# Altium footprint library dAir.PcbLib: 6 footprints
Each footprint in its own frame and in the unit in brackets; x right, y up, seen from the top. Pads: shape width x height; smd on the part's side, far side on the other; paste and mask are expansions set on the pad; w line width, h text height; cw(c..) or ccw(c..) is an arc to the next point about the centre after c.
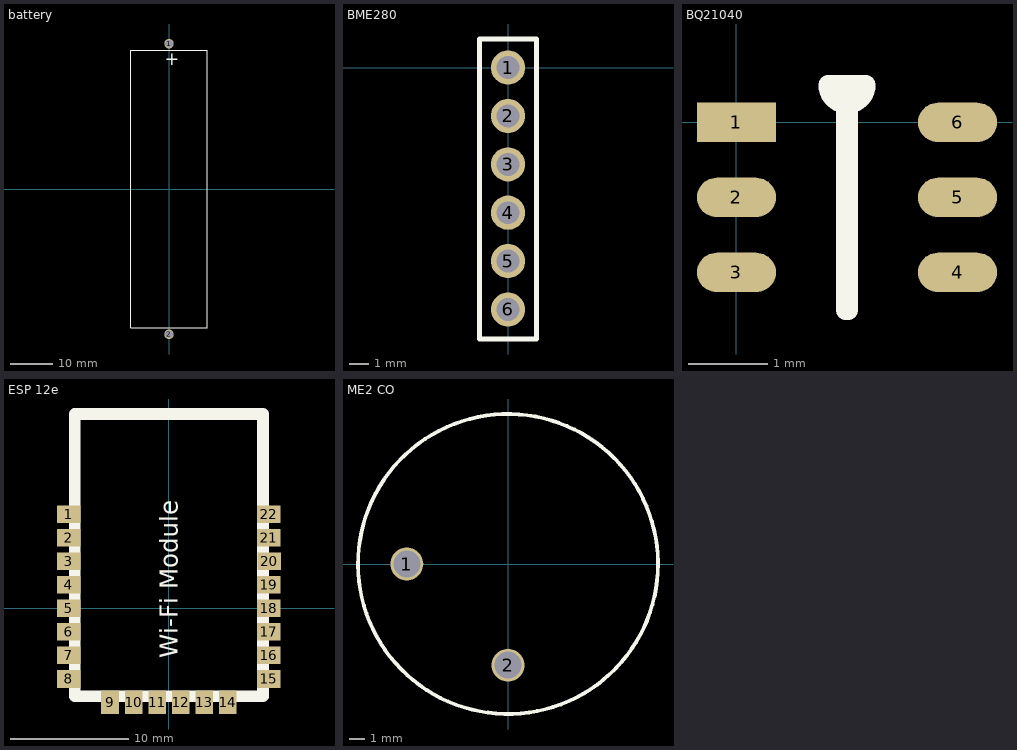
[diagram p0: the footprints below, top view; thin cyan lines are the x and y axes]

## battery [mm]
pads (2):
  round 2.2 hole 1.8: 1(0,34) 2(0,-34)
Top Overlay:
  lines w0.254: -9,-32.5 9,-32.5 9,32.5 -9,32.5 -9,-32.5
  text "+" at -1,29 h3

## BME280 [mm]
pads (6):
  round 1.8 hole 1.2: 1(0,0) 2(0,-2.54) 3(0,-5.08) 4(0,-7.62) 5(0,-10.16) 6(0,-12.7)
Top Overlay:
  lines w0.254: -1.5,-14.25 -1.5,1.5 1.5,1.5 1.5,-14.25 -1.5,-14.25

## BQ21040 [mm]
pads (6):
  rect 1x0.5 smd: 1(0,0)
  oval 1x0.5 smd: 2(0,-0.95) 3(0,-1.9) 4(2.8,-1.9) 5(2.8,-0.95) 6(2.8,0)
Top Overlay:
  lines w0.25: 1.162,0.475 ccw(c1.4,0.475) 1.637,0.475 1.415,0.475 1.415,-2.375 1.385,-2.375 1.385,0.475 1.162,0.475

## ESP 12e [mm]
pads (22):
  rect 2x1.5 smd: 1(-8.51,7.99) 2(-8.51,5.99) 3(-8.51,3.99) 4(-8.51,1.99) 5(-8.51,-0.01) 6(-8.51,-2.01) 7(-8.51,-4.01) 8(-8.51,-6.01) 15(8.49,-6.01) 16(8.49,-4.01) 17(8.49,-2.01) 18(8.49,-0.01) 19(8.49,1.99) 20(8.51,3.99) 21(8.49,5.99) 22(8.49,7.99)
  rect 1.5x2 smd: 9(-5.01,-7.99) 10(-3.01,-7.99) 11(-1.01,-7.99) 12(0.99,-7.99) 13(2.99,-7.99) 14(4.99,-7.99)
Top Overlay:
  lines w1: -8.01,-7.49 -8.01,16.51 7.99,16.51 7.99,-7.49 -8.01,-7.49
  text "Wi-Fi Module" at 0.725,-4.25 h1.52

## ME2 CO [mm]
pads (2):
  round 2.2 hole 1.8: 1(-6.75,0) 2(0,-6.75)
Top Overlay:
  lines w0.254: 10,0 cw(c0,0) 9.999,0.114

## SOP6 [mm]